# Altium integrated library resonator.IntLib: 2 symbols
Pins are listed as number, name and electrical type; pins without a type are passive.

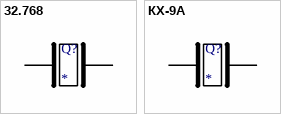
[diagram p0: symbols 32.768 to КХ-9А]

## 32.768
designator Q?
footprint FC-135
pins: 1, 2

## КХ-9А
designator Q?
footprint KX-9A
pins: 1, 2